# Altium footprint library ECR_Plib.PcbLib: 18 footprints (part 2 of 2)
Each footprint in its own frame and in the unit in brackets; x right, y up, seen from the top. Pads: shape width x height; smd on the part's side, far side on the other; paste and mask are expansions set on the pad; w line width, h text height; cw(c..) or ccw(c..) is an arc to the next point about the centre after c.
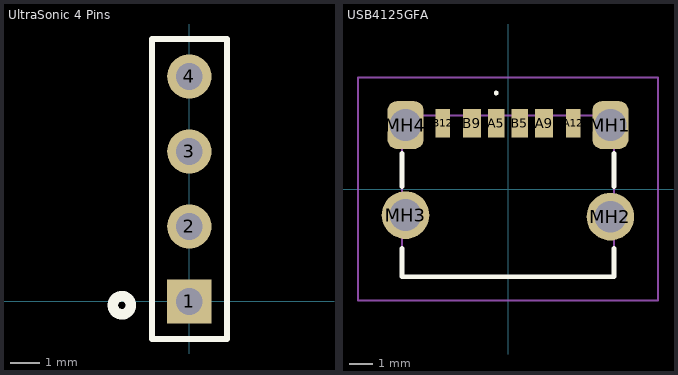
[diagram p1: the footprints below, top view; thin cyan lines are the x and y axes]

## UltraSonic 4 Pins [mm]
pads (4):
  rect 1.5x1.5 hole 0.9: 1(0,0)
  round 1.5 hole 0.9: 2(0,2.54) 3(0,5.08) 4(0,7.62)
Top Overlay:
  circle w0.254: c-2.286,-0.127 r0.254
  circle w0.254: c-2.286,-0.127 r0.359
  lines w0.2: -1.27,-1.27 -1.27,8.89 1.27,8.89 1.27,-1.27 -1.27,-1.27

## USB4125GFA [mm]
pads (10):
  rect 0.7x1.2 smd: A5(-0.5,2.778) B5(0.5,2.778)
  rect 0.76x1.2 smd: A9(1.52,2.778) B9(-1.52,2.778)
  rect 0.6x1.2 smd: A12(2.75,2.778) B12(-2.75,2.778)
  rrect50% 1.51x2.01 hole 1.34: MH1(4.32,2.698) MH4(-4.32,2.698)
  round 2.01 hole 1.34: MH2(4.318,-1.168) MH3(-4.32,-1.102)
Top Overlay:
  lines w0.1: -0.5,3.998 ccw(c-0.5,4.048) -0.5,4.098 ; -0.5,3.997 cw(c-0.5,4.048) -0.5,4.098
  lines w0.2: -4.47,-2.502 -4.47,-3.702 4.47,-3.702 4.47,-2.502 ; -4.47,0.098 -4.47,1.498 ; 4.47,0.098 4.47,1.498
Mechanical 13:
  lines w0.1: -4.47,-3.702 -4.47,3.098 4.47,3.098 4.47,-3.702 -4.47,-3.702
Mechanical 15:
  lines w0.1: -6.325,-4.703 -6.325,4.703 6.325,4.703 6.325,-4.703 -6.325,-4.703
3D body "USB4125-GF-A.stp": height 3.26, standoff -1.01, extent -4.471,-3.902 4.473,3.003